# Altium footprint library 天线.PcbLib: 19 footprints (part 2 of 2)
Each footprint in its own frame and in the unit in brackets; x right, y up, seen from the top. Pads: shape width x height; smd on the part's side, far side on the other; paste and mask are expansions set on the pad; w line width, h text height; cw(c..) or ccw(c..) is an arc to the next point about the centre after c.
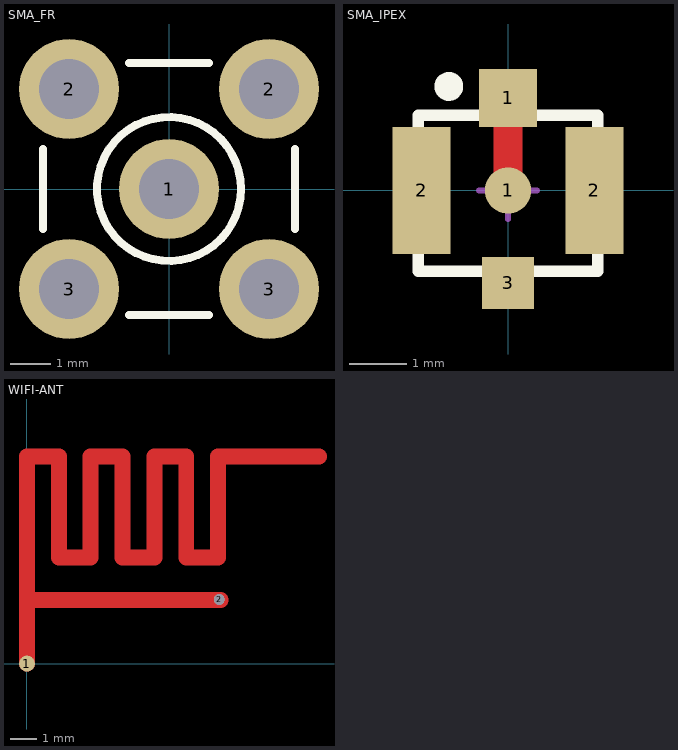
[diagram p1: the footprints below, top view; thin cyan lines are the x and y axes]

## SMA_FR [mm] "SMA 90度射频天线座"
pads (5):
  round 2.5 hole 1.5: 1(0,0) 2(-2.5,2.5) 2(2.5,2.5) 3(-2.5,-2.5) 3(2.5,-2.5)
Top Overlay:
  circle w0.2: c0,0 r1.8
  lines w0.2: -3.15,-1 -3.15,1 ; -1,-3.15 1,-3.15 ; -1,3.15 1,3.15 ; 3.15,-1 3.15,1
Mechanical 1:
  circle w0.025: c0,0 r1.8
  circle w0.025: c0,0 r1.05
  circle w0.025: c0,0 r0.2
3D body: height 10.26, standoff -3.84, extent -3.5,-3.5 3.5,11.6

## SMA_IPEX [mm] "小型贴片IPEX天线座"
pads (5):
  round 0.8 smd: 1(0,0)
  rect 1x1 smd: 1(0,1.6)
  rect 1x2.2 smd: 2(-1.496,0) 2(1.496,0)
  rect 0.9x0.9 smd: 3(0,-1.6)
Top Layer:
  lines w0.5: 0,0 0,1.6
Top Overlay:
  circle w0.25: c-1.025,1.8 r0.125
  lines w0.2: -1.55,-1.4 -1.55,1.3 1.55,1.3 1.55,-1.4 -1.55,-1.4
Mechanical 15:
  lines w0.1: -0.5,0 0.5,0 ; 0,-0.5 0,0.5

## WIFI-ANT [mm]
pads (2):
  round 0.6 smd: 1(0,0)
  round 0.4 hole 0.4: 2(7.239,2.413)
Top Layer:
  lines w0.6: 0,0 0,7.8 1.2,7.8 1.2,4 2.4,4 2.4,7.8 3.6,7.8 3.6,4 4.8,4 4.8,7.8 6,7.8 6,4 7.2,4 7.2,7.8 11,7.8 ; 0,2.4 7.3,2.4
Top Solder:
  lines w0.8: 0,0 0,7.8 1.2,7.8 1.2,4 2.4,4 2.4,7.8 3.6,7.8 3.6,4 4.8,4 4.8,7.8 6,7.8 6,4 7.2,4 7.2,7.8 11,7.8 ; 0,2.4 7.3,2.4